# Altium integrated library Inductors.IntLib: 3 symbols
Pins are listed as number, name and electrical type; pins without a type are passive.

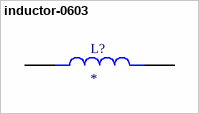
[diagram p0: symbol inductor-0603]

## inductor-0603
designator L?
footprint inductor 0603
pins: 1, 2


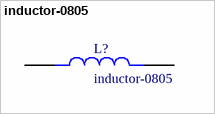
[diagram p1: symbol inductor-0805]

## inductor-0805
designator L?
footprint inductor-0805
pins: 1, 2


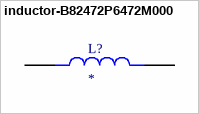
[diagram p2: symbol inductor-B82472P6472M000]

## inductor-B82472P6472M000
designator L?
Inductors from EPCOS include SMT Inductors, SMT Power Inductors, Transponder Coils, ISDN Transformers, xDSL Transformers, DC/DC Converters, RF Transformers and SMT Current Sense Transformers.
footprint IND_B82472P6472M000
pins: 1, 2